# Altium footprint library footprints_library_legacy.pcblib: 35 footprints (part 2 of 3)
Each footprint in its own frame and in the unit in brackets; x right, y up, seen from the top. Pads: shape width x height; smd on the part's side, far side on the other; paste and mask are expansions set on the pad; w line width, h text height; cw(c..) or ccw(c..) is an arc to the next point about the centre after c.
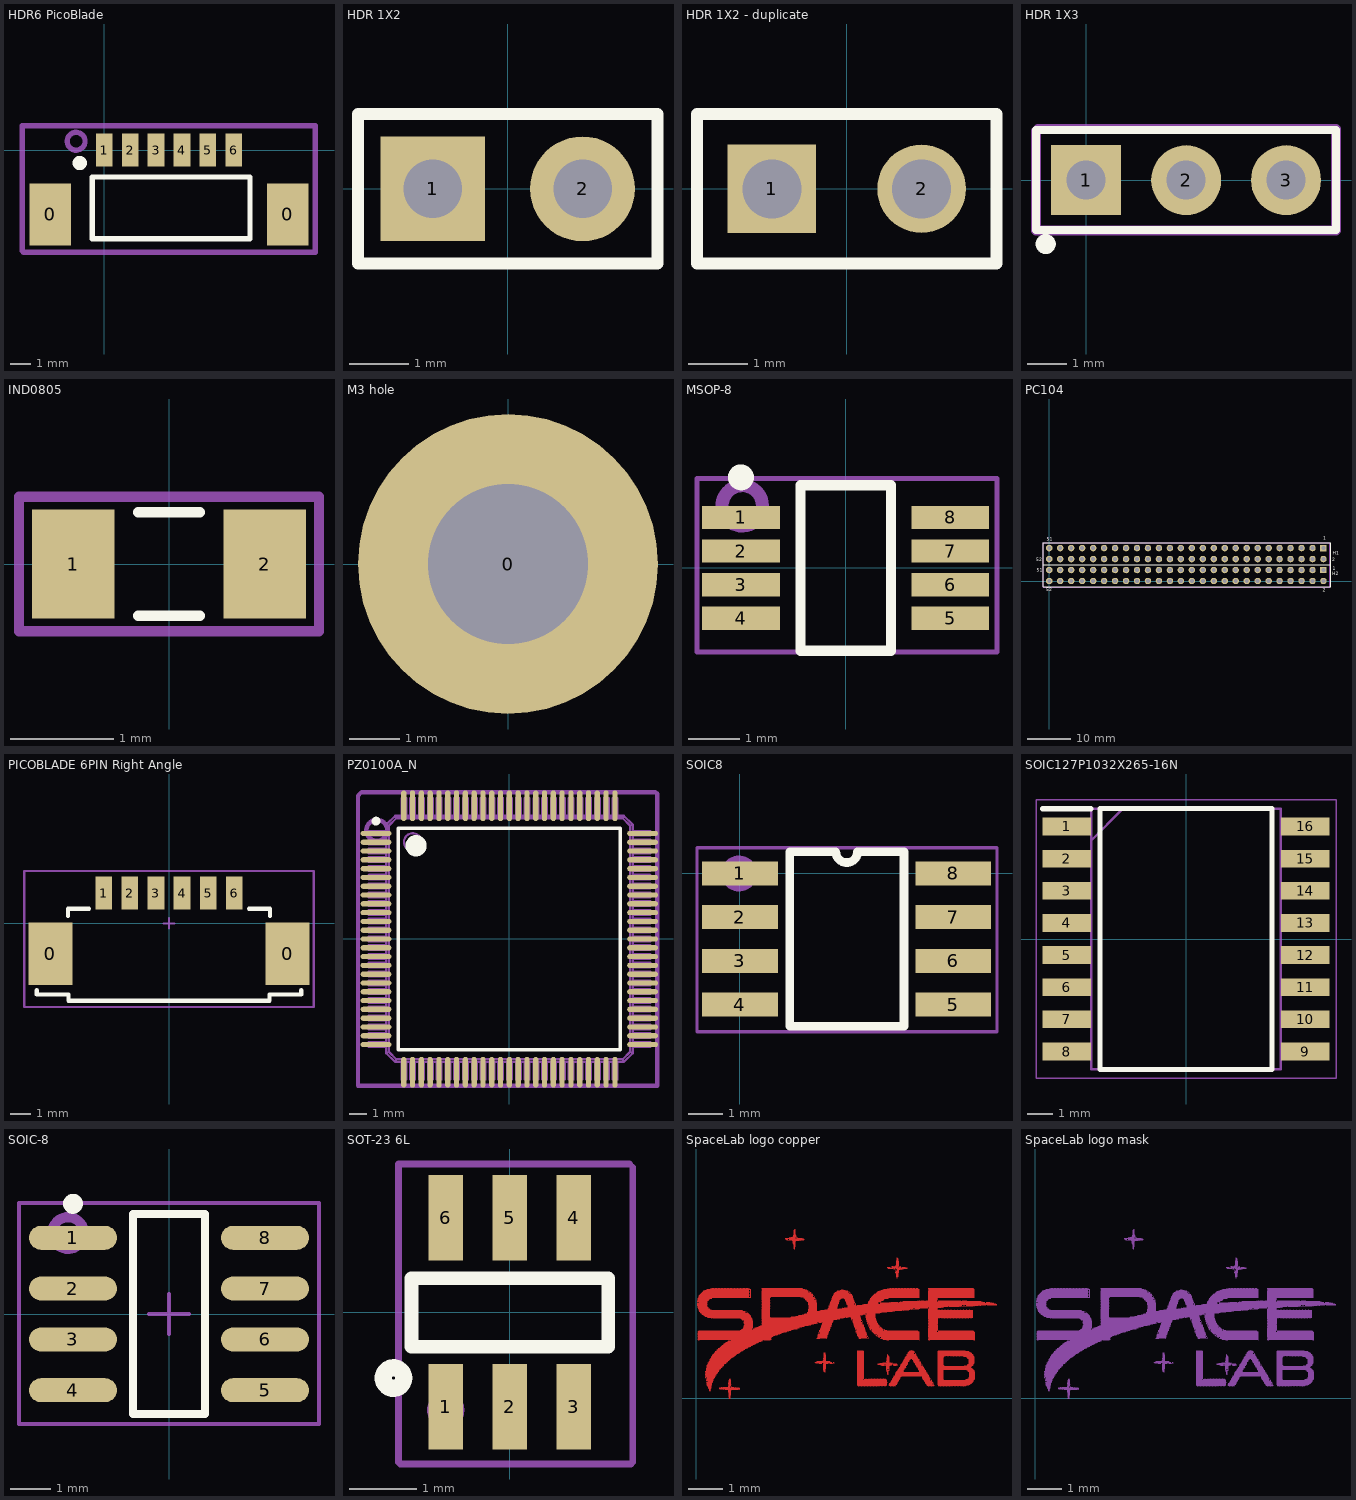
[diagram p1: the footprints below, top view; thin cyan lines are the x and y axes]

## HDR6 PicoBlade [mm]
pads (8):
  rect 2x3 smd: 0(-2.6,-3.1) 0(8.85,-3.1)
  rect 0.8x1.6 smd: 1(0,0) 2(1.25,0) 3(2.5,0) 4(3.75,0) 5(5,0) 6(6.25,0)
Top Overlay:
  circle w0.5: c-1.175,-0.625 r0.09
  lines w0.254: -0.574,-4.275 7.025,-4.275 7.025,-1.3 -0.574,-1.3 -0.574,-4.275
Mechanical 15:
  circle w0.254: c-1.35,0.425 r0.432
  lines w0.254: -3.95,-4.85 -3.95,1.175 10.175,1.175 10.175,-4.925 -3.875,-4.925 -3.95,-4.85
  text ".Designator" at -3.341,-1.212 h0.5
3D body "User Library-molex 5339853398-0671.STEP": height 4.7, standoff 0, extent -3.125,-4.325 9.525,-0.125

## HDR 1X2 [mil]
pads (2):
  rect 70x70 hole 39: 1(-50,0)
  round 70 hole 39: 2(50,0)
Top Overlay:
  lines w8: -100,-50 100,-50 100,50 -100,50 -100,-50
Mechanical 15:
  lines w3.94: -99.41,-50.2 100.39,-50.2 100.39,49.21 -99.41,49.21 -99.41,-50.2
  text ".Designator" at -78.74,-36.42 h19.68

## HDR 1X2 - duplicate [mm]
pads (2):
  rect 1.5x1.5 hole 1: 1(-1.27,0)
  round 1.5 hole 1: 2(1.27,0)
Top Overlay:
  lines w0.203: -2.54,-1.27 -2.54,1.27 2.54,1.27 2.54,-1.27 -2.54,-1.27
Mechanical 15:
  lines w0.1: -2.525,-1.275 -2.525,1.25 2.55,1.25 2.55,-1.275 -2.525,-1.275
  text ".Designator" at -2,-0.925 h0.5

## HDR 1X3 [mil]
height 122.05
pads (3):
  rect 70x70 hole 39: 1(0,0)
  round 70 hole 39: 2(100,0) 3(200,0)
Top Overlay:
  circle w10: c-40.45,-63.98 r5.02
  lines w8: -50,-50 250,-50 250,50 -50,50 -50,-50
Mechanical 15:
  lines w10: -50.2,-50.2 250,-50.2 250,51.18 -48.23,51.18 -50.2,49.21 -50.2,-50.2
  text ".Designator" at -29.13,-5.51 h19.68
3D body "Samtec-HTSW-103-07-G-S.STEP": height 330, standoff -100, extent -49.99,-49.99 250.01,50.01

## IND0805 [mm]
height 1.25
pads (2):
  rect 0.8x1.05 smd: 1(-0.925,0) 2(0.925,0)
Top Overlay:
  lines w0.1: -0.3,-0.5 0.3,-0.5 ; -0.3,0.5 0.3,0.5
Mechanical 15:
  lines w0.1: -1.45,-0.65 1.45,-0.65 1.45,0.65 -1.45,0.65 -1.45,-0.65
  text ".Designator" at -1.15,-0.1 h0.5
3D body "INDC0805(2012M).STEP": height 0.95, standoff 0, extent -1,-0.6 1,0.6

## M3 hole [mm]
pads (1):
  round 6 hole 3.2: 0(0,0)

## MSOP-8 [mm] "8-Lead Mini Small Outline Package [MSOP] (RM-8)"
height 0.95
pads (8):
  rect 1.5x0.45 smd: 1(-2.025,0.975) 2(-2.025,0.325) 3(-2.025,-0.325) 4(-2.025,-0.975) 5(2.025,-0.975) 6(2.025,-0.325) 7(2.025,0.325) 8(2.025,0.975)
Top Overlay:
  circle w0.25: c-2.025,1.75 r0.125
  lines w0.2: -0.875,-1.6 -0.875,1.6 0.875,1.6 0.875,-1.6 -0.875,-1.6
Mechanical 15:
  circle w0.254: c-2,1.2 r0.391
  lines w0.1: -2.875,-1.625 -2.875,1.725 2.925,1.725 2.925,-1.625 -2.875,-1.625
  text ".Designator" at -1.754,-0.292 h0.5
3D body "MSOP-8 (MO-187-AA).STEP": height 1.1, standoff 0, extent -2.46,-1.5 2.459,1.5

## PC104 [mm] "Connector; Header; 26x4 Position"
height 3.1
pads (104):
  rect 1.5x1.5 hole 0.9: H1-1(63.5,7.7) H2-1(63.5,2.625)
  round 1.5 hole 0.9: H1-2(63.5,5.16) H1-3(60.96,7.7) H1-4(60.96,5.16) H1-5(58.42,7.7) H1-6(58.42,5.16) H1-7(55.88,7.7) H1-8(55.88,5.16) H1-9(53.34,7.7) H1-10(53.34,5.16) H1-11(50.8,7.7) H1-12(50.8,5.16) H1-13(48.26,7.7) H1-14(48.26,5.16) H1-15(45.72,7.7) H1-16(45.72,5.16) H1-17(43.155,7.7) H1-18(43.18,5.16) H1-19(40.64,7.7) H1-20(40.64,5.16) H1-21(38.1,7.7) H1-22(38.1,5.16) H1-23(35.56,7.7) H1-24(35.56,5.16) H1-25(33.02,7.7) H1-26(33.02,5.16) H1-27(30.48,7.7) H1-28(30.48,5.16) H1-29(27.94,7.7) H1-30(27.94,5.16) H1-31(25.4,7.7) H1-32(25.4,5.16) H1-33(22.86,7.7) H1-34(22.86,5.16) H1-35(20.32,7.7) H1-36(20.32,5.16) H1-37(17.78,7.7) H1-38(17.78,5.16) H1-39(15.24,7.7) H1-40(15.24,5.16) H1-41(12.7,7.7) H1-42(12.7,5.16) H1-43(10.16,7.7) H1-44(10.16,5.16) H1-45(7.62,7.7) H1-46(7.62,5.16) H1-47(5.08,7.7) H1-48(5.08,5.16) H1-49(2.54,7.7) H1-50(2.54,5.16) H1-51(0,7.7) H1-52(0,5.16) H2-2(63.5,0.08) H2-3(60.96,2.62) H2-4(60.96,0.08) H2-5(58.42,2.62) H2-6(58.42,0.08) H2-7(55.88,2.62) H2-8(55.88,0.08) H2-9(53.34,2.625) H2-10(53.34,0.08) H2-11(50.8,2.625) H2-12(50.8,0.08) H2-13(48.26,2.62) H2-14(48.26,0.08) H2-15(45.72,2.62) H2-16(45.72,0.08) H2-17(43.155,2.62) H2-18(43.18,0.08) H2-19(40.64,2.62) H2-20(40.64,0.08) H2-21(38.1,2.62) H2-22(38.1,0.08) H2-23(35.56,2.62) H2-24(35.56,0.08) H2-25(33.02,2.62) H2-26(33.02,0.08) H2-27(30.48,2.62) H2-28(30.48,0.08) H2-29(27.94,2.62) H2-30(27.94,0.08) H2-31(25.4,2.62) H2-32(25.4,0.08) H2-33(22.86,2.62) H2-34(22.86,0.08) H2-35(20.32,2.62) H2-36(20.32,0.08) H2-37(17.78,2.62) H2-38(17.78,0.08) H2-39(15.24,2.62) H2-40(15.24,0.08) H2-41(12.7,2.62) H2-42(12.7,0.08) H2-43(10.16,2.62) H2-44(10.16,0.08) H2-45(7.62,2.62) H2-46(7.62,0.08) H2-47(5.08,2.62) H2-48(5.08,0.08) H2-49(2.54,2.62) H2-50(2.54,0.08) H2-51(0,2.62) H2-52(0,0.08)
Top Overlay:
  lines w0.2: -1.375,-1.225 65.175,-1.225 65.175,3.895 -1.375,3.895 -1.375,-1.225 ; -1.375,3.89 -1.375,8.97 65.175,8.97 65.175,3.89 -1.375,3.89
  text "1" at 65.65,2.6 h0.75
  text "2" at 63.28,-2.38 h0.75
  text "2" at 65.56,4.61 h0.75
  text "1" at 63.47,9.66 h0.75
  text "52" at -0.74,-2.34 h0.75
  text "51" at -2.88,2.25 h0.75
  text "51" at -0.62,9.36 h0.75
  text "52" at -3.07,4.6 h0.75
  text "H2" at 65.53,1.41 h0.75
  text "H1" at 65.59,6.18 h0.75
Mechanical 15:
  lines w0.1: -1.375,-1.325 -1.375,8.975 64.975,8.975 64.975,-1.325 -1.375,-1.325
  text "PC104" at 48.95,4.83 h1
3D body "SSW-126-04-G-D.stp": height 8.51, standoff -14.83, extent -1.474,-1.001 65.074,3.952
3D body "SSW-126-04-G-D.stp": height 8.51, standoff -14.83, extent -1.45,3.898 65.098,8.851

## PICOBLADE 6PIN Right Angle [mm]
height 3.4
pads (8):
  rect 2.1x3 smd: 0(-5.675,-1.45) 0(5.675,-1.45)
  rect 0.8x1.6 smd: 1(-3.125,1.45) 2(-1.875,1.45) 3(-0.625,1.45) 4(0.625,1.45) 5(1.875,1.45) 6(3.125,1.45)
Top Overlay:
  lines w0.2: -6.325,-3.2 -6.325,-3.4 -4.811,-3.4 -4.811,-3.7 4.811,-3.7 4.811,-3.4 6.325,-3.4 6.325,-3.2 ; -4.825,0.35 -4.825,0.7 -3.825,0.7 ; 3.825,0.7 4.825,0.7 4.825,0.35
Mechanical 15:
  lines w0.1: -0.25,0 0.25,0 ; 0,-0.25 0,0.25 ; -6.925,-4 -6.925,2.5 6.925,2.5 6.925,-4 -6.925,-4
  text ".Designator" at -5.841,0.788 h0.5
3D body "User Library-molex 53261 white (4).step": height 3.5, standoff 0, extent -6.325,-3.6 6.325,1.6

## PZ0100A_N [mm]
height 3.1
pads (100):
  oval 1.75x0.3 smd paste-0.102 mask+0.051: 1(-7.575,6) 2(-7.575,5.5) 3(-7.575,5) 4(-7.575,4.5) 5(-7.575,4) 6(-7.575,3.5) 7(-7.575,3) 8(-7.575,2.5) 9(-7.575,2) 10(-7.575,1.5) 11(-7.575,1) 12(-7.575,0.5) 13(-7.575,0) 14(-7.575,-0.5) 15(-7.575,-1) 16(-7.575,-1.5) 17(-7.575,-2) 18(-7.575,-2.5) 19(-7.575,-3) 20(-7.575,-3.5) 21(-7.575,-4) 22(-7.575,-4.5) 23(-7.575,-5) 24(-7.575,-5.5) 25(-7.575,-6) 51(7.575,-6) 52(7.575,-5.5) 53(7.575,-5) 54(7.575,-4.5) 55(7.575,-4) 56(7.575,-3.5) 57(7.575,-3) 58(7.575,-2.5) 59(7.575,-2) 60(7.575,-1.5) 61(7.575,-1) 62(7.575,-0.5) 63(7.575,0) 64(7.575,0.5) 65(7.575,1) 66(7.575,1.5) 67(7.575,2) 68(7.575,2.5) 69(7.575,3) 70(7.575,3.5) 71(7.575,4) 72(7.575,4.5) 73(7.575,5) 74(7.575,5.5) 75(7.575,6)
  oval 0.3x1.75 smd paste-0.102 mask+0.051: 26(-6,-7.575) 27(-5.5,-7.575) 28(-5,-7.575) 29(-4.5,-7.575) 30(-4,-7.575) 31(-3.5,-7.575) 32(-3,-7.575) 33(-2.5,-7.575) 34(-2,-7.575) 35(-1.5,-7.575) 36(-1,-7.575) 37(-0.5,-7.575) 38(0,-7.575) 39(0.5,-7.575) 40(1,-7.575) 41(1.5,-7.575) 42(2,-7.575) 43(2.5,-7.575) 44(3,-7.575) 45(3.5,-7.575) 46(4,-7.575) 47(4.5,-7.575) 48(5,-7.575) 49(5.5,-7.575) 50(6,-7.575) 76(6,7.575) 77(5.5,7.575) 78(5,7.575) 79(4.5,7.575) 80(4,7.575) 81(3.5,7.575) 82(3,7.575) 83(2.5,7.575) 84(2,7.575) 85(1.5,7.575) 86(1,7.575) 87(0.5,7.575) 88(0,7.575) 89(-0.5,7.575) 90(-1,7.575) 91(-1.5,7.575) 92(-2,7.575) 93(-2.5,7.575) 94(-3,7.575) 95(-3.5,7.575) 96(-4,7.575) 97(-4.5,7.575) 98(-5,7.575) 99(-5.5,7.575) 100(-6,7.575)
Top Overlay:
  circle w0.25: c-7.575,6.7 r0.125
  circle w0.6: c-5.3,5.3 r0.3
  lines w0.2: -6.3,-6.3 -6.3,6.3 6.3,6.3 6.3,-6.3 -6.3,-6.3
Mechanical 1:
  drawing of 1326 lines, arcs and shapes, not listed
Mechanical 13:
  text ".Designator" at -6.275,1.125 h1.27
Mechanical 15:
  circle w0.254: c-7.525,6.175 r0.596
  lines w0.254: -8.6,-8.35 -8.6,8.15 -8.4,8.35 8.3,8.35 8.4,8.25 8.4,-8.35 -8.6,-8.35
  text ".Designator" at -3.26,4.646 h1
3D body "User Library-LQFP100-3.STEP": height 1.62, standoff -0.01, extent -8.097,-8.097 8.047,8.047

## SOIC8 [mm]
height 3.1
pads (8):
  rect 2.2x0.7 smd: 1(0,0) 2(0,-1.27) 3(0,-2.54) 4(0,-3.81) 5(6.205,-3.81) 6(6.205,-2.54) 7(6.205,-1.27) 8(6.205,0)
Top Overlay:
  lines w0.254: 1.449,-4.445 4.768,-4.445 4.768,0.635 3.42,0.635 cw(c3.103,0.635) 2.785,0.635 1.449,0.635 1.449,-4.445
Mechanical 15:
  circle w0.254: c-0.025,0 r0.395
  lines w0.1: -1.25,-4.6 7.475,-4.6 7.475,0.75 -1.25,0.75 -1.25,-4.6
  text ".Designator" at 0.025,-2.325 h0.5
3D body "User Library-SOIC-8 - TEK.step": height 1.7, standoff -0.05, extent 0.103,-4.4 6.103,0.6

## SOIC127P1032X265-16N [mm]
pads (16):
  rect 1.925x0.7 smd: 1(-4.712,4.445) 2(-4.712,3.175) 3(-4.712,1.905) 4(-4.712,0.635) 5(-4.712,-0.635) 6(-4.712,-1.905) 7(-4.712,-3.175) 8(-4.712,-4.445) 9(4.712,-4.445) 10(4.712,-3.175) 11(4.712,-1.905) 12(4.712,-0.635) 13(4.712,0.635) 14(4.712,1.905) 15(4.712,3.175) 16(4.712,4.445)
Top Overlay:
  lines w0.2: -5.675,5.145 -3.75,5.145 ; -3.4,-5.15 3.4,-5.15 3.4,5.15 -3.4,5.15 -3.4,-5.15
Mechanical 15:
  lines w0.1: -3.75,3.88 -2.48,5.15 ; -3.75,-5.15 3.75,-5.15 3.75,5.15 -3.75,5.15 -3.75,-5.15
Mechanical 20:
  lines w0.05: -5.925,-5.5 5.925,-5.5 5.925,5.5 -5.925,5.5 -5.925,-5.5
3D body "MT25QL01GBBB8ESF-0SIT.stp": height 2.65, standoff 0, extent -5.226,-5.213 5.099,5.087
3D body: height 0.25, standoff 0, extent 0,0 0,0

## SOIC-8 [mm] "SOIC, 8-Leads, Body 4,89x3,90mm, Pitch 1,27mm, IPC Medium Density"
height 1.75
pads (8):
  oval 2.2x0.6 smd: 1(-2.4,1.905) 2(-2.4,0.635) 3(-2.4,-0.635) 4(-2.4,-1.905) 5(2.4,-1.905) 6(2.4,-0.635) 7(2.4,0.635) 8(2.4,1.905)
Top Overlay:
  circle w0.25: c-2.4,2.755 r0.125
  lines w0.2: -0.9,-2.5 -0.9,2.5 0.9,2.5 0.9,-2.5 -0.9,-2.5
Mechanical 15:
  circle w0.254: c-2.525,2.025 r0.395
  lines w0.05: -3.75,-2.75 -3.75,2.75 3.75,2.75 3.75,-2.75 -3.75,-2.75
  lines w0.1: -0.5,0 0.5,0 ; 0,-0.5 0,0.5 ; -3.75,-2.75 3.75,-2.75 3.75,2.775 -3.75,2.775 -3.75,-2.75
  text ".Designator" at -2.475,-0.3 h0.5
3D body "SOIC-8-1.STEP": height 1.75, standoff 0, extent -3,-2.45 3,2.45

## SOT-23 6L [mm]
pads (6):
  rect 0.508x1.27 smd: 1(-0.95,-1.4) 2(0,-1.4) 3(0.95,-1.4) 4(0.95,1.4) 5(0,1.4) 6(-0.95,1.4)
Top Overlay:
  circle w0.254: c-1.725,-0.975 r0.152
  lines w0.203: -1.458,-0.511 -1.458,0.505 1.463,0.505 1.463,-0.511 -1.458,-0.511
Mechanical 15:
  circle w0.254: c-0.95,-1.45 r0.15
  lines w0.1: -1.65,-2.225 -1.65,2.2 1.775,2.2 ; -1.625,-2.25 1.8,-2.25 ; 1.825,-2.225 1.825,2.15
  text ".Designator" at 0.175,-1.925 h0.5
3D body "SOT-23-6-3.STEP": height 0.86, standoff 0, extent -1.5,-1.405 1.5,1.405

## SpaceLab logo copper [mm]
Top Layer:
  drawing of 18 lines, arcs and shapes, not listed

## SpaceLab logo mask [mm]
Top Solder:
  drawing of 18 lines, arcs and shapes, not listed